# EAGLE library part FSAL200 (library BW-Active)
Quad 2:1 analog multiplexer
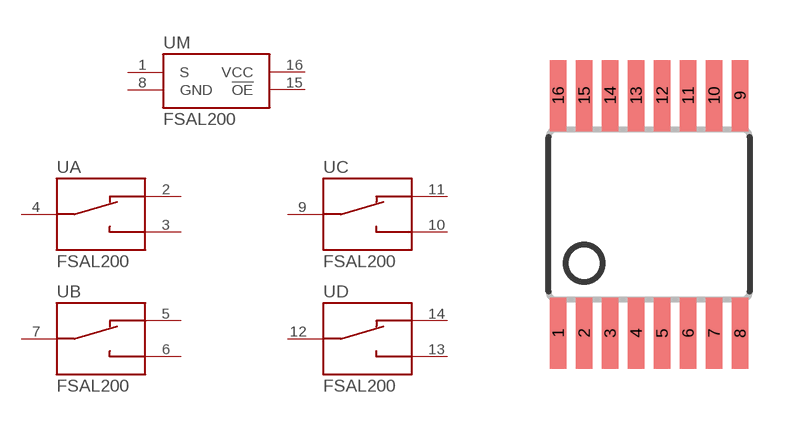
[diagram p32: symbol with the pads of TSSOP16L; footprint TSSOP16L]

Designator prefix U; gates M=FSAL200-CTL A=ANALOGMUX B=ANALOGMUX C=ANALOGMUX D=ANALOGMUX

## FSAL200MTC  [TSSOP16L]
1  M:S
2  A:B1
3  A:B2
4  A:A
5  B:B1
6  B:B2
7  B:A
8  M:GND
9  C:A
10  C:B2
11  C:B1
12  D:A
13  D:B2
14  D:B1
15  M:!OE
16  M:VCC

## Footprint TSSOP16L (pad centres in mm)
MOLDED TSSOP JEDEC, 5 x 4.4 x 9.9 mm Body 16 LD, 0.65mm Pitch Source: http://www.national.com/packaging/mkt/mtc16.pdf
smd 0.42 x 1.78: 1 -2.275,-2.97; 2 -1.625,-2.97; 3 -0.975,-2.97; 4 -0.325,-2.97; 5 0.325,-2.97; 6 0.975,-2.97; 7 1.625,-2.97; 8 2.275,-2.97; 9 2.275,2.97; 10 1.625,2.97; 11 0.975,2.97; 12 0.325,2.97; 13 -0.325,2.97; 14 -0.975,2.97; 15 -1.625,2.97; 16 -2.275,2.97